# Altium footprint library DAQPCBLib.PcbLib: 8 footprints
Each footprint in its own frame and in the unit in brackets; x right, y up, seen from the top. Pads: shape width x height; smd on the part's side, far side on the other; paste and mask are expansions set on the pad; w line width, h text height; cw(c..) or ccw(c..) is an arc to the next point about the centre after c.
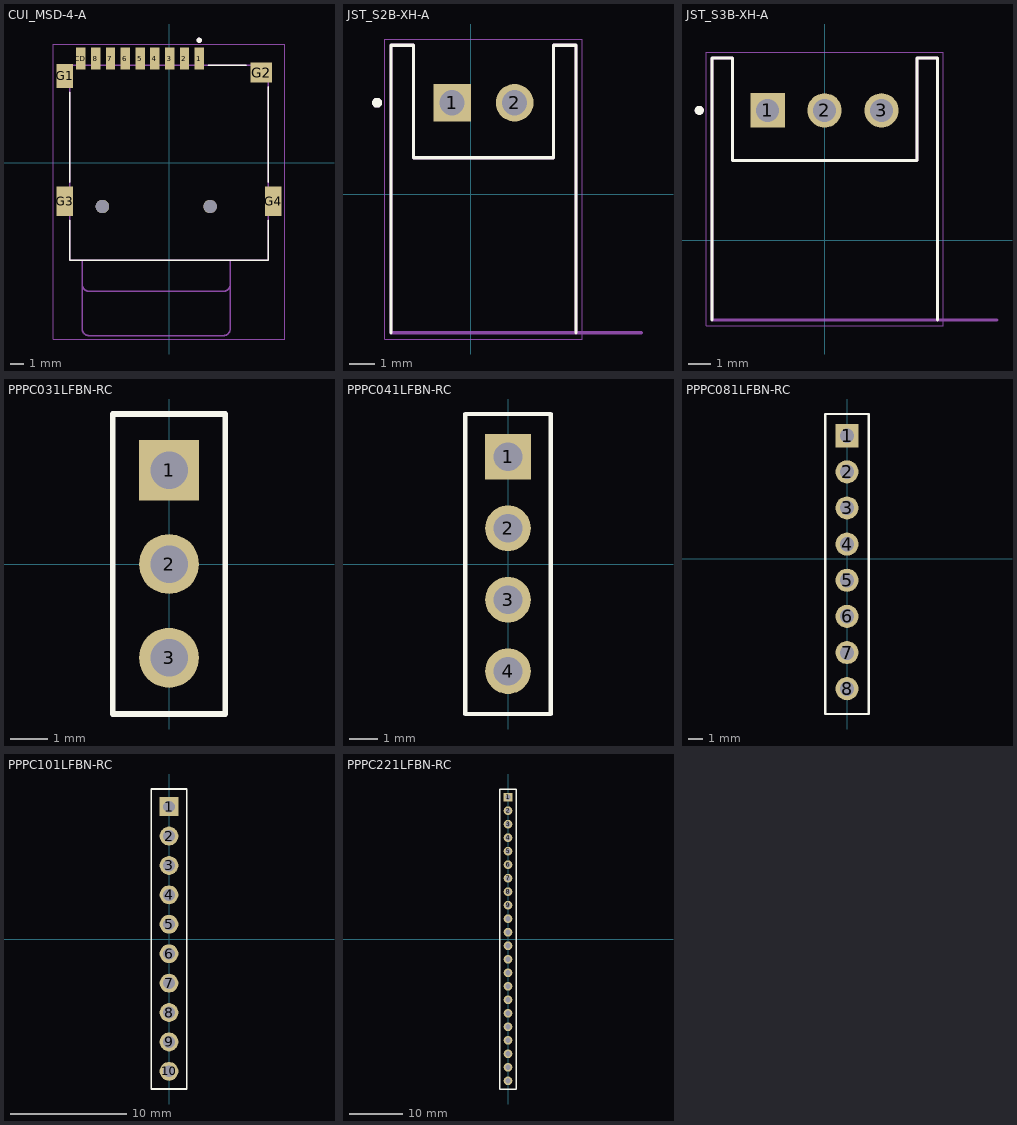
[diagram p0: the footprints below, top view; thin cyan lines are the x and y axes]

## CUI_MSD-4-A [mm]
height 2
pads (15):
  rect 0.7x1.6 smd: 1(2.25,7.75) 2(1.15,7.75) 3(0.05,7.75) 4(-1.05,7.75) 5(-2.15,7.75) 6(-3.25,7.75) 7(-4.35,7.75) 8(-5.45,7.75) CD(-6.55,7.75)
  rect 1.2x1.8 smd: G1(-7.75,6.45)
  rect 1.6x1.5 smd: G2(6.85,6.7)
  rect 1.2x2.2 smd: G3(-7.75,-2.85) G4(7.75,-2.85)
  round 1 hole 1 unplated: ""(-4.95,-3.25) ""(3.05,-3.25)
Top Overlay:
  circle w0.2: c2.25,9.1 r0.1
  lines w0.127: -7.375,-4.27 -7.375,-7.25 7.375,-7.25 7.375,-4.27 ; -7.375,-1.43 -7.375,5.23 ; 2.92,7.25 5.73,7.25 ; 7.375,-1.43 7.375,5.63
Top 3D Body:
  circle w0.2: c2.25,9.1 r0.1
  lines w0.127: -6.45,-9.05 ccw(c-5.95,-9.05) -5.95,-9.55 4.05,-9.55 ccw(c4.05,-9.05) 4.55,-9.05 ; -6.45,-7.25 -7.375,-7.25 -7.375,7.25 7.375,7.25 7.375,-7.25 4.55,-7.25 ; -6.45,-7.25 4.55,-7.25 ; -6.45,-7.25 -6.45,-12.35 ccw(c-5.95,-12.35) -5.95,-12.85 4.05,-12.85 ccw(c4.05,-12.35) 4.55,-12.35 4.55,-7.25
Top Courtyard:
  lines w0.05: -8.6,-13.1 8.6,-13.1 8.6,8.8 -8.6,8.8 -8.6,-13.1
3D body "step_temp.STEP": height 1.8, standoff -0.6, extent -8.128,-7.525 8.022,7.525

## JST_S2B-XH-A [mm]
pads (2):
  rect 1.508x1.508 / inner round 1.508 / far side rect 1.508x1.508 hole 1: 1(-0.742,3.668)
  round 1.508 hole 1: 2(1.758,3.668)
Top Overlay:
  circle w0.2: c-3.742,3.668 r0.1
  lines w0.127: -3.192,-5.532 -3.192,5.968 -2.292,5.968 -2.292,1.468 3.308,1.468 3.308,5.968 4.208,5.968 4.208,-5.532
Top 3D Body:
  circle w0.2: c-3.742,3.668 r0.1
  lines w0.127: 6.828,-5.532 4.208,-5.532 ; 4.208,-5.532 4.208,5.968 3.308,5.968 3.308,1.468 -2.292,1.468 -2.292,5.968 -3.192,5.968 -3.192,-5.532 4.208,-5.532
  text "PCB Edge" at 4.675,-5.235 h0.81
Top Courtyard:
  lines w0.05: -3.442,-5.782 4.458,-5.782 4.458,6.218 -3.442,6.218 -3.442,-5.782
3D body "step_temp.STEP": height 6.1, standoff -3.4, extent -3.192,-5.532 4.208,5.968

## JST_S3B-XH-A [mm]
pads (3):
  rect 1.508x1.508 / inner round 1.508 / far side rect 1.508x1.508 hole 1: 1(-2.5,5.7)
  round 1.508 hole 1: 2(0,5.7) 3(2.5,5.7)
Top Overlay:
  circle w0.2: c-5.5,5.7 r0.1
  lines w0.127: -4.95,-3.5 -4.95,8 -4.05,8 -4.05,3.5 4.05,3.5 4.05,8 4.95,8 4.95,-3.5
Top 3D Body:
  circle w0.2: c-5.5,5.7 r0.1
  lines w0.127: 7.57,-3.5 4.95,-3.5 ; 4.95,-3.5 -4.95,-3.5 -4.95,8 -4.05,8 -4.05,3.5 4.05,3.5 4.05,8 4.95,8 4.95,-3.5
  text "PCB Edge" at 5.417,-3.203 h0.81
Top Courtyard:
  lines w0.05: -5.2,-3.75 -5.2,8.25 5.2,8.25 5.2,-3.75 -5.2,-3.75
3D body "step_temp.STEP": height 6.1, standoff -3.4, extent -4.95,-3.5 4.95,8

## PPPC031LFBN-RC [mil]
pads (3):
  rect 64x64 hole 40: 1(0,100)
  round 64 hole 40: 2(0,0) 3(0,-100)
Top Overlay:
  lines w6: -60,-160 60,-160 60,160 -60,160 -60,-160
3D body "PPPC031LFBN-RC.STEP": height 335, standoff -126, extent -50,-160 50,160

## PPPC041LFBN-RC [mil]
pads (4):
  rect 64x64 hole 40: 1(0,150)
  round 64 hole 40: 2(0,50) 3(0,-50) 4(0,-150)
Top Overlay:
  lines w6: -60,-210 60,-210 60,210 -60,210 -60,-210
3D body "PPPC041LFBN-RC.STEP": height 335, standoff -126, extent -50,-210 50,210

## PPPC081LFBN-RC [mil]
pads (8):
  rect 64x64 hole 40: 1(0,340)
  round 64 hole 40: 2(0,240) 3(0,140) 4(0,40) 5(0,-60) 6(0,-160) 7(0,-260) 8(0,-360)
Top Overlay:
  lines w6: -60,-430 20,-430 60,-430 60,400 -60,400 -60,-430
3D body "PPPC081LFBN-RC.STEP": height 335, standoff -126, extent -50,-420 50,400

## PPPC101LFBN-RC [mil]
pads (10):
  rect 64x64 hole 40: 1(0,450)
  round 64 hole 40: 2(0,350) 3(0,250) 4(0,150) 5(0,50) 6(0,-50) 7(0,-150) 8(0,-250) 9(0,-350) 10(0,-450)
Top Overlay:
  lines w6: -60,-510 60,-510 60,-330 60,510 -60,510 -60,-510
3D body "PPPC101LFBN-RC.STEP": height 335, standoff -126, extent -50,-510 50,510

## PPPC221LFBN-RC [mil]
pads (22):
  rect 64x64 hole 40: 1(0,1050)
  round 64 hole 40: 2(0,950) 3(0,850) 4(0,750) 5(0,650) 6(0,550) 7(0,450) 8(0,350) 9(0,250) 10(0,150) 11(0,50) 12(0,-50) 13(0,-150) 14(0,-250) 15(0,-350) 16(0,-450) 17(0,-550) 18(0,-650) 19(0,-750) 20(0,-850) 21(0,-950) 22(0,-1050)
Top Overlay:
  lines w10: -60,-1110 60,-1110 60,1110 -60,1110 -60,-1110
3D body "PPPC221LFBN-RC.STEP": height 335, standoff -126, extent -50,-1110 50,1110